# Altium schematic symbol library RC0603FR-0710KL.SchLib: 1 symbol
Pins are listed as number, name and electrical type; pins without a type are passive.

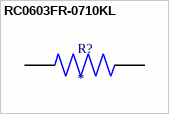
[diagram p0: symbol RC0603FR-0710KL]

## RC0603FR-0710KL
designator R?
YAGEO RC0603FR-0710KL / RESISTOR 10K 1/10W 1% 0603 YAG <a href="https://pricing.snapeda.com/parts/RC0603FR-0710KL/Yageo/view-part?ref=eda">Check availability</a>; MF: {'manufacturer': u'Yageo'}; Package: None; Price: None; Value: *; MP: RC0603FR-0710KL; Availability: Unavailable
footprint RESC1607X60N
pins: 1, 2